# EAGLE library part CPU-BOARD (library unicorn_v2)
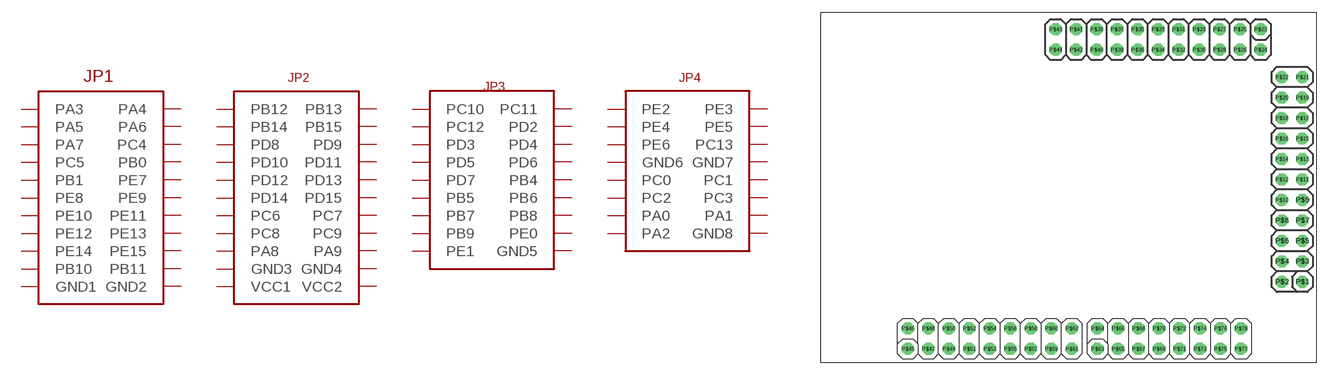
[diagram p3: symbol with the pads of CPU-BOARD-JP1; footprint CPU-BOARD-JP1]

Designator prefix -; gates G$1=CPU-BOARD-JP1 G$2=CPU-BOARD-JP2 G$3=CPU-BOARD-JP3 G$4=CPU-BOARD-JP4

## CPU-BOARD  [CPU-BOARD-JP1]
P$1  G$1:PA3
P$2  G$1:PA4
P$3  G$1:PA5
P$4  G$1:PA6
P$5  G$1:PA7
P$6  G$1:PC4
P$7  G$1:PC5
P$8  G$1:PB0
P$9  G$1:PB1
P$10  G$1:PE7
P$11  G$1:PE8
P$12  G$1:PE9
P$13  G$1:PE10
P$14  G$1:PE11
P$15  G$1:PE12
P$16  G$1:PE13
P$17  G$1:PE14
P$18  G$1:PE15
P$19  G$1:GND1
P$20  G$1:GND2
P$21  G$1:PB10
P$22  G$1:PB11
P$23  G$2:PB12
P$24  G$2:PB13
P$25  G$2:PB14
P$26  G$2:PB15
P$27  G$2:PD8
P$28  G$2:PD9
P$29  G$2:PD10
P$30  G$2:PD11
P$31  G$2:PD12
P$32  G$2:PD13
P$33  G$2:PD14
P$34  G$2:PD15
P$35  G$2:PC6
P$36  G$2:PC7
P$37  G$2:PC8
P$38  G$2:PC9
P$39  G$2:PA8
P$40  G$2:PA9
P$41  G$2:GND3
P$42  G$2:GND4
P$43  G$2:VCC1
P$44  G$2:VCC2
P$45  G$3:PC10
P$46  G$3:PC11
P$47  G$3:PC12
P$48  G$3:PD2
P$49  G$3:PD3
P$50  G$3:PD4
P$51  G$3:PD5
P$52  G$3:PD6
P$53  G$3:PD7
P$54  G$3:PB4
P$55  G$3:PB5
P$56  G$3:PB6
P$57  G$3:PB7
P$58  G$3:PB8
P$59  G$3:PB9
P$60  G$3:PE0
P$61  G$3:PE1
P$62  G$3:GND5
P$63  G$4:PE2
P$64  G$4:PE3
P$65  G$4:PE4
P$66  G$4:PE5
P$67  G$4:PE6
P$68  G$4:PC13
P$69  G$4:GND6
P$70  G$4:GND7
P$71  G$4:PC0
P$72  G$4:PC1
P$73  G$4:PC2
P$74  G$4:PC3
P$75  G$4:PA0
P$76  G$4:PA1
P$77  G$4:PA2
P$78  G$4:GND8

## Footprint CPU-BOARD-JP1 (pad centres in mm)
drill 1 octagon: P$1 1.27,-12.7; P$2 -1.27,-12.7; P$3 1.27,-10.16; P$4 -1.27,-10.16; P$5 1.27,-7.62; P$6 -1.27,-7.62; P$7 1.27,-5.08; P$8 -1.27,-5.08; P$9 1.27,-2.54; P$10 -1.27,-2.54; P$11 1.27,0; P$12 -1.27,0; P$13 1.27,2.54; P$14 -1.27,2.54; P$15 1.27,5.08; P$16 -1.27,5.08; P$17 1.27,7.62; P$18 -1.27,7.62; P$19 1.27,10.16; P$20 -1.27,10.16; P$21 1.27,12.7; P$22 -1.27,12.7; P$23 -3.905,18.637; P$24 -3.905,16.097; P$25 -6.445,18.637; P$26 -6.445,16.097; P$27 -8.985,18.637; P$28 -8.985,16.097; P$29 -11.525,18.637; P$30 -11.525,16.097; P$31 -14.065,18.637; P$32 -14.065,16.097; P$33 -16.605,18.637; P$34 -16.605,16.097; P$35 -19.145,18.637; P$36 -19.145,16.097; P$37 -21.685,18.637; P$38 -21.685,16.097; P$39 -24.225,18.637; P$40 -24.225,16.097; P$41 -26.765,18.637; P$42 -26.765,16.097; P$43 -29.305,18.637; P$44 -29.305,16.097; P$45 -47.625,-21.018; P$46 -47.625,-18.479; P$47 -45.085,-21.018; P$48 -45.085,-18.479; P$49 -42.545,-21.018; P$50 -42.545,-18.479; P$51 -40.005,-21.018; P$52 -40.005,-18.479; P$53 -37.465,-21.018; P$54 -37.465,-18.479; P$55 -34.925,-21.018; P$56 -34.925,-18.479; P$57 -32.385,-21.018; P$58 -32.385,-18.479; P$59 -29.845,-21.018; P$60 -29.845,-18.479; P$61 -27.305,-21.018; P$62 -27.305,-18.479; P$63 -24.115,-21.024; P$64 -24.115,-18.484; P$65 -21.575,-21.024; P$66 -21.575,-18.484; P$67 -19.035,-21.024; P$68 -19.035,-18.484; P$69 -16.495,-21.024; P$70 -16.495,-18.484; P$71 -13.955,-21.024; P$72 -13.955,-18.484; P$73 -11.415,-21.024; P$74 -11.415,-18.484; P$75 -8.875,-21.024; P$76 -8.875,-18.484; P$77 -6.335,-21.024; P$78 -6.335,-18.484